# EAGLE library part AP2502 (library dsantoro-misc)
IC LED DRVR LIN DIM 20MA SOT23-6
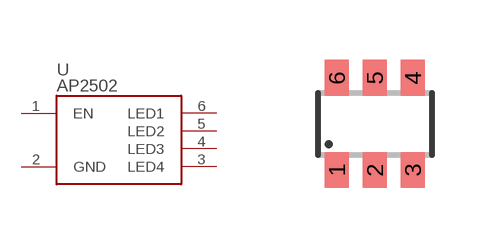
[diagram p3: symbol with the pads of SOT23-6; footprint SOT23-6]

Designator prefix U

## AP2502  [SOT23-6]
1  EN
2  GND
3  LED4
4  LED3
5  LED2
6  LED1

## Footprint SOT23-6 (pad centres in mm)
Small Outline Transistor 6 lead
smd 0.6 x 0.9: 1 -0.95,-1.15; 2 0,-1.15; 3 0.95,-1.15; 4 0.95,1.15; 5 0,1.15; 6 -0.95,1.15